# EAGLE library part AD633 (library ic)
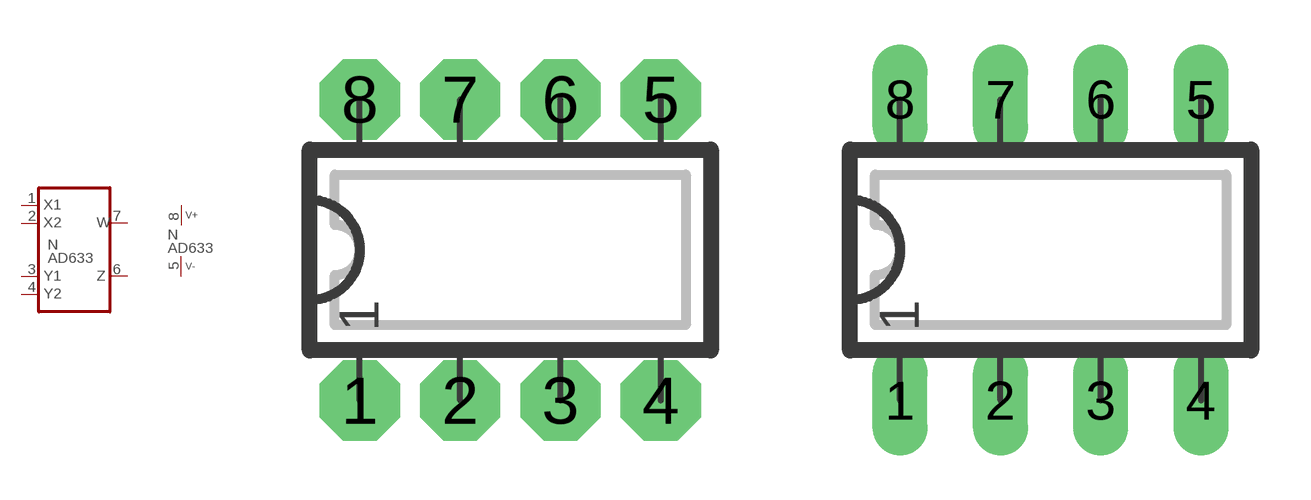
[diagram p2: symbol with the pads of DIP08N; footprints DIP08N, DIP08L]

Designator prefix N; gates  =AD633 P=V+-

## AD633N  [DIP08N]
1   :X1  in
2   :X2  in
3   :Y1  in
4   :Y2  in
5  P:V-  pwr
6   :Z  in
7   :W  out
8  P:V+  pwr

## AD633  [DIP08L]
Pads as for DIP08N

## AD633L  [DIP08L]
Pads as for DIP08N

## AD633R  [DIP08R]
Pads as for DIP08N

## Footprint DIP08N (pad centres in mm)
DIP-8 Standard IC package, 8 pins
drill 0.813 pad 2.032 octagon: 1 -3.81,-3.81; 2 -1.27,-3.81; 3 1.27,-3.81; 4 3.81,-3.81; 5 3.81,3.81; 6 1.27,3.81; 7 -1.27,3.81; 8 -3.81,3.81

## Footprint DIP08L (pad centres in mm)
DIP-8, long pads Standard IC package, 8 pins
drill 0.813 pad 1.397 long: 1 -3.81,-3.81; 2 -1.27,-3.81; 3 1.27,-3.81; 4 3.81,-3.81; 5 3.81,3.81; 6 1.27,3.81; 7 -1.27,3.81; 8 -3.81,3.81

## Footprint DIP08R (pad centres in mm)
DIP-8, reduced pads Standard IC package, 8 pins
drill 0.813 pad 1.397 square: 1 -3.81,-3.81; 2 -1.27,-3.81; 3 1.27,-3.81; 4 3.81,-3.81; 5 3.81,3.81; 6 1.27,3.81; 7 -1.27,3.81; 8 -3.81,3.81